# Altium integrated library Infineon_Microcontroller.IntLib: 721 symbols (part 31 of 66)
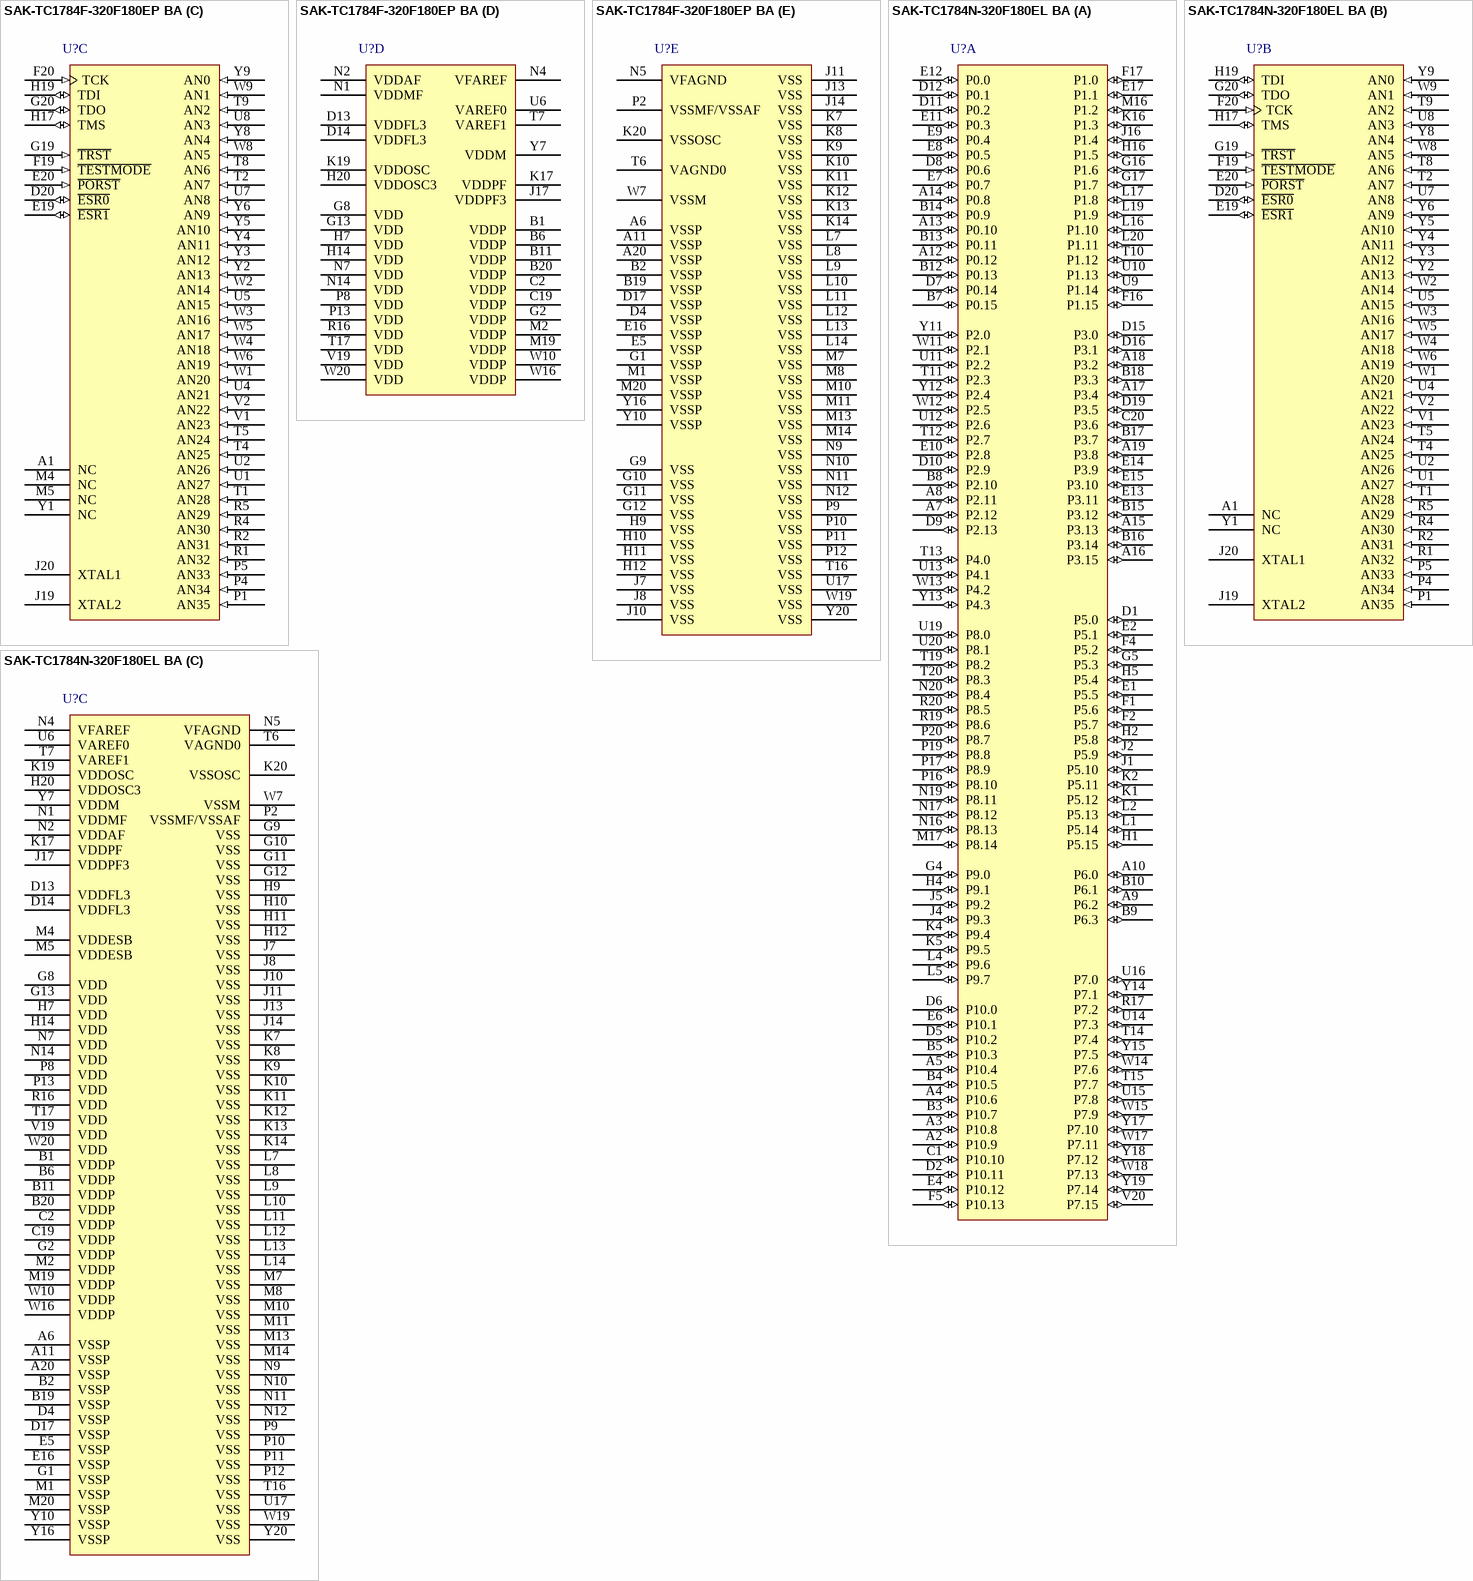
[diagram p148: symbols SAK-TC1784F-320F180EP BA to SAK-TC1784N-320F180EL BA]

## SAK-TC1784N-320F180EL BA
designator U?
180 MHz AUDO MCU with 2.5 MB Program Memory, 176 KByte SRAM, 3.3 V, -40 to 125 degC, PG-LFBGA-292, Reel, Green; Manufacturer: Infineon; PartNumber: SAK-TC1784N-320F180EL BA; A / D input lines (incl. FADC): 36; CAN Nodes: 3; Digital I/O Lines: 91; DMA Channels: 16; DSP functionality (e.g MDU/MAC): TRUE; FlexRay TM: FALSE; I/O Operation Voltages: 3.3 V; Instruction set architecture: TriCore v1.3.1; Instruction width [bits]: 32/16; LIN BSL loader (for fast Flash programming): FALSE; Max Clock Frequency: 180 MHz; Number of ADC Modules: 2; Program Memory: 2.5 MB; Serial I/O Interfaces: 7; Timed I/O Pins (PWM-Ch,CAPCOM): 122; Timer / Counter: 128; Type of Memory: Flash; Type of Serial I/O Interfaces: ASC(2), SSC(3), MSC(1), MLI(1); DatasheetVersion: Rev. 1.0; PackageVersion: V 1.0, 01/2012; PackageReference: PG-LFBGA-292-1; PackageDescription: 292-Pin Plastic (Green) Low Profile Fine Pitch Ball Grid Array Package, Body 17 x 17 mm, Pitch 0.8 mm; E2PROM Emulation (Data-Flash): TRUE; External Bus interface: TRUE; Floating Point Unit: TRUE; Green: TRUE; Halogen-free: TRUE; On-chip clock generation: TRUE; On-chip Voltage Regulator: FALSE; Oscillator Watchdog: TRUE; Packing: Reel; Peripheral Control Processor (PCP): TRUE; Power Modes: 3; SRAM (incl. Cache): 176 KByte; Watchdog Timer: TRUE; Mounting Technology: Surface Mount; Code_JEDEC: J-STD-020C; ComponentLink1Description: Manufacturer URL; ComponentLink1URL: http://www.infineon.com/; ComponentLink2Description: Datasheet; ComponentLink2URL: http://www.infineon.com/dgdl/TC1784_DS_v10.pdf?folderId=db3a304326dfb1300127000d958f65bb&fileId=db3a304336ca04c90136ca92f1cd00a6; ComponentLink3Description: Package Specification; ComponentLink3URL: http://www.infineon.com/dgdl/TC1791_DS_v10.pdf?folderId=db3a304326dfb1300127000d958f65bb&fileId=db3a30433580b3710135afe8eb475643
footprint INF-PG-LFBGA-292-1 (BGA, 292-Balls, Body 17x17mm, Pitch 0.8mm)
part A pins: A2 P10.9 (io), A3 P10.8 (io), A4 P10.6 (io), A5 P10.4 (io), A7 P2.12 (io), A8 P2.11 (io), A9 P6.2 (io), A10 P6.0 (io), A12 P0.12 (io), A13 P0.10 (io), A14 P0.8 (io), A15 P3.13 (io), A16 P3.15 (io), A17 P3.4 (io), A18 P3.2 (io), A19 P3.8 (io), B3 P10.7 (io), B4 P10.5 (io), B5 P10.3 (io), B7 P0.15 (io), B8 P2.10 (io), B9 P6.3 (io), B10 P6.1 (io), B12 P0.13 (io), B13 P0.11 (io), B14 P0.9 (io), B15 P3.12 (io), B16 P3.14 (io), B17 P3.7 (io), B18 P3.3 (io), C1 P10.10 (io), C20 P3.6 (io), D1 P5.0 (io), D2 P10.11 (io), D5 P10.2 (io), D6 P10.0 (io), D7 P0.14 (io), D8 P0.6 (io), D9 P2.13 (io), D10 P2.9 (io), D11 P0.2 (io), D12 P0.1 (io), D15 P3.0 (io), D16 P3.1 (io), D19 P3.5 (io), E1 P5.5 (io), E2 P5.1 (io), E4 P10.12 (io), E6 P10.1 (io), E7 P0.7 (io), E8 P0.5 (io), E9 P0.4 (io), E10 P2.8 (io), E11 P0.3 (io), E12 P0.0 (io), E13 P3.11 (io), E14 P3.9 (io), E15 P3.10 (io), E17 P1.1 (io), F1 P5.6 (io), F2 P5.7 (io), F4 P5.2 (io), F5 P10.13 (io), F16 P1.15 (io), F17 P1.0 (io), G4 P9.0 (io), G5 P5.3 (io), G16 P1.6 (io), G17 P1.7 (io), H1 P5.15 (io), H2 P5.8 (io), H4 P9.1 (io), H5 P5.4 (io), H16 P1.5 (io), J1 P5.10 (io), J2 P5.9 (io), J4 P9.3 (io), J5 P9.2 (io), J16 P1.4 (io), K1 P5.12 (io), K2 P5.11 (io), K4 P9.4 (io), K5 P9.5 (io), K16 P1.3 (io), L1 P5.14 (io), L2 P5.13 (io), L4 P9.6 (io), L5 P9.7 (io), L16 P1.10 (io), L17 P1.8 (io), L19 P1.9 (io), L20 P1.11 (io), M16 P1.2 (io), M17 P8.14 (io), N16 P8.13 (io), N17 P8.12 (io), N19 P8.11 (io), N20 P8.4 (io), P16 P8.10 (io), P17 P8.9 (io), P19 P8.8 (io), P20 P8.7 (io), R17 P7.2 (io), R19 P8.6 (io), R20 P8.5 (io), T10 P1.12 (io), T11 P2.3 (io), T12 P2.7 (io), T13 P4.0 (io), T14 P7.4 (io), T15 P7.7 (io), T19 P8.2 (io), T20 P8.3 (io), U9 P1.14 (io), U10 P1.13 (io), U11 P2.2 (io), U12 P2.6 (io), U13 P4.1 (io), U14 P7.3 (io), U15 P7.8 (io), U16 P7.0 (io), U19 P8.0 (io), U20 P8.1 (io), V20 P7.15 (io), W11 P2.1 (io), W12 P2.5 (io), W13 P4.2 (io), W14 P7.6 (io), W15 P7.9 (io), W17 P7.11 (io), W18 P7.13 (io), Y11 P2.0 (io), Y12 P2.4 (io), Y13 P4.3 (io), Y14 P7.1 (io), Y15 P7.5 (io), Y17 P7.10 (io), Y18 P7.12 (io), Y19 P7.14 (io)
part B pins: A1 NC "Not connected.", D20 ~{ESR0} (io) "External System Request Reset Input 0", E19 ~{ESR1} (io) "External System Request Reset Input 1", E20 ~{PORST} (in) "Power On Reset Input", F19 ~{TESTMODE} (in) "Test Mode Select Input", F20 TCK (in), G19 ~{TRST} (in) "JTAG Reset Input", G20 TDO (io), H17 TMS (io), H19 TDI (io), J19 XTAL2 "Oscillator/PLL/Clock Generator Output", J20 XTAL1 "Oscillator/PLL/Clock Generator Input", P1 AN35 (in) "Analog Input 35", P4 AN34 (in) "Analog Input 34", P5 AN33 (in) "Analog Input 33", R1 AN32 (in) "Analog Input 32", R2 AN31 (in) "Analog Input 31", R4 AN30 (in) "Analog Input 30", R5 AN29 (in) "Analog Input 29", T1 AN28 (in) "Analog Input 28", T2 AN7 (in) "Analog Input 7", T4 AN25 (in) "Analog Input 25", T5 AN24 (in) "Analog Input 24", T8 AN6 (in) "Analog Input 6", T9 AN2 (in) "Analog Input 2", U1 AN27 (in) "Analog Input 27", U2 AN26 (in) "Analog Input 26", U4 AN21 (in) "Analog Input 21", U5 AN15 (in) "Analog Input 15", U7 AN8 (in) "Analog Input 8", U8 AN3 (in) "Analog Input 3", V1 AN23 (in) "Analog Input 23", V2 AN22 (in) "Analog Input 22", W1 AN20 (in) "Analog Input 20", W2 AN14 (in) "Analog Input 14", W3 AN16 (in) "Analog Input 16", W4 AN18 (in) "Analog Input 18", W5 AN17 (in) "Analog Input 17", W6 AN19 (in) "Analog Input 19", W8 AN5 (in) "Analog Input 5", W9 AN1 (in) "Analog Input 1", Y1 NC "Not connected.", Y2 AN13 (in) "Analog Input 13", Y3 AN12 (in) "Analog Input 12", Y4 AN11 (in) "Analog Input 11", Y5 AN10 (in) "Analog Input 10", Y6 AN9 (in) "Analog Input 9", Y8 AN4 (in) "Analog Input 4", Y9 AN0 (in) "Analog Input 0"
part C pins: A6 VSSP (power) "Digital Ground", A11 VSSP (power) "Digital Ground", A20 VSSP (power) "Digital Ground", B1 VDDP (power) "Port Power Supply (3.3V)", B2 VSSP (power) "Digital Ground", B6 VDDP (power) "Port Power Supply (3.3V)", B11 VDDP (power) "Port Power Supply (3.3V)", B19 VSSP (power) "Digital Ground", B20 VDDP (power) "Port Power Supply (3.3V)", C2 VDDP (power) "Port Power Supply (3.3V)", C19 VDDP (power) "Port Power Supply (3.3V)", D4 VSSP (power) "Digital Ground", D13 VDDFL3 (power) "Power Supply for Flash (3.3V)", D14 VDDFL3 (power) "Power Supply for Flash (3.3V)", D17 VSSP (power) "Digital Ground", E5 VSSP (power) "Digital Ground", E16 VSSP (power) "Digital Ground", G1 VSSP (power) "Digital Ground", G2 VDDP (power) "Port Power Supply (3.3V)", G8 VDD (power) "Digital Core Power Supply (1.3V)", G9 VSS (power) "Digital Ground", G10 VSS (power) "Digital Ground", G11 VSS (power) "Digital Ground", G12 VSS (power) "Digital Ground", G13 VDD (power) "Digital Core Power Supply (1.3V)", H7 VDD (power) "Digital Core Power Supply (1.3V)", H9 VSS (power) "Digital Ground", H10 VSS (power) "Digital Ground", H11 VSS (power) "Digital Ground", H12 VSS (power) "Digital Ground", H14 VDD (power) "Digital Core Power Supply (1.3V)", H20 VDDOSC3 (power) "Main Oscillator Power Supply (3.3V)", J7 VSS (power) "Digital Ground", J8 VSS (power) "Digital Ground", J10 VSS (power) "Digital Ground", J11 VSS (power) "Digital Ground", J13 VSS (power) "Digital Ground", J14 VSS (power) "Digital Ground", J17 VDDPF3 (power) "Flexray Oscillator Power Supply (3.3V)", K7 VSS (power) "Digital Ground", K8 VSS (power) "Digital Ground", K9 VSS (power) "Digital Ground", K10 VSS (power) "Digital Ground", K11 VSS (power) "Digital Ground", K12 VSS (power) "Digital Ground", K13 VSS (power) "Digital Ground", K14 VSS (power) "Digital Ground", K17 VDDPF (power) "Flexray Oscillator and PLL Power Supply (1.3V)", K19 VDDOSC (power) "Main Oscillator and PLL Power Supply (1.3V)", K20 VSSOSC (power) "Main Oscillator and PLL Ground", L7 VSS (power) "Digital Ground", L8 VSS (power) "Digital Ground", L9 VSS (power) "Digital Ground", L10 VSS (power) "Digital Ground", L11 VSS (power) "Digital Ground", L12 VSS (power) "Digital Ground", L13 VSS (power) "Digital Ground", L14 VSS (power) "Digital Ground", M1 VSSP (power) "Digital Ground", M2 VDDP (power) "Port Power Supply (3.3V)", M4 VDDESB (power) "Emulation Stand-by SRAM Power Supply (1.3V) (Emulation device only)", M5 VDDESB (power) "Emulation Stand-by SRAM Power Supply (1.3V) (Emulation device only)", M7 VSS (power) "Digital Ground", M8 VSS (power) "Digital Ground", M10 VSS (power) "Digital Ground", M11 VSS (power) "Digital Ground", M13 VSS (power) "Digital Ground", M14 VSS (power) "Digital Ground", M19 VDDP (power) "Port Power Supply (3.3V)", M20 VSSP (power) "Digital Ground", N1 VDDMF (power) "FADC Analog Part Power Supply (3.3V)", N2 VDDAF (power) "FADC Analog Part Logic Power Supply (1.3V)", N4 VFAREF (power) "FADC Reference Voltage", N5 VFAGND (power) "FADC Reference Ground", N7 VDD (power) "Digital Core Power Supply (1.3V)", N9 VSS (power) "Digital Ground", N10 VSS (power) "Digital Ground", N11 VSS (power) "Digital Ground", N12 VSS (power) "Digital Ground", N14 VDD (power) "Digital Core Power Supply (1.3V)", P2 VSSMF/VSSAF (power) "FADC Analog Part Ground", P8 VDD (power) "Digital Core Power Supply (1.3V)", P9 VSS (power) "Digital Ground", P10 VSS (power) "Digital Ground", P11 VSS (power) "Digital Ground", P12 VSS (power) "Digital Ground", P13 VDD (power) "Digital Core Power Supply (1.3V)", R16 VDD (power) "Digital Core Power Supply (1.3V)", T6 VAGND0 (power) "ADC Reference Ground", T7 VAREF1 (power) "ADC1 Reference Voltage", T16 VSS (power) "Digital Ground", T17 VDD (power) "Digital Core Power Supply (1.3V)", U6 VAREF0 (power) "ADC0 Reference Voltage", U17 VSS (power) "Digital Ground", V19 VDD (power) "Digital Core Power Supply (1.3V)", W7 VSSM (power) "ADC Analog Part Ground", W10 VDDP (power) "Port Power Supply (3.3V)", W16 VDDP (power) "Port Power Supply (3.3V)", W19 VSS (power) "Digital Ground", W20 VDD (power) "Digital Core Power Supply (1.3V)", Y7 VDDM (power) "ADC Analog Part Power Supply (3.3V - 5V)", Y10 VSSP (power) "Digital Ground", Y16 VSSP (power) "Digital Ground", Y20 VSS (power) "Digital Ground"

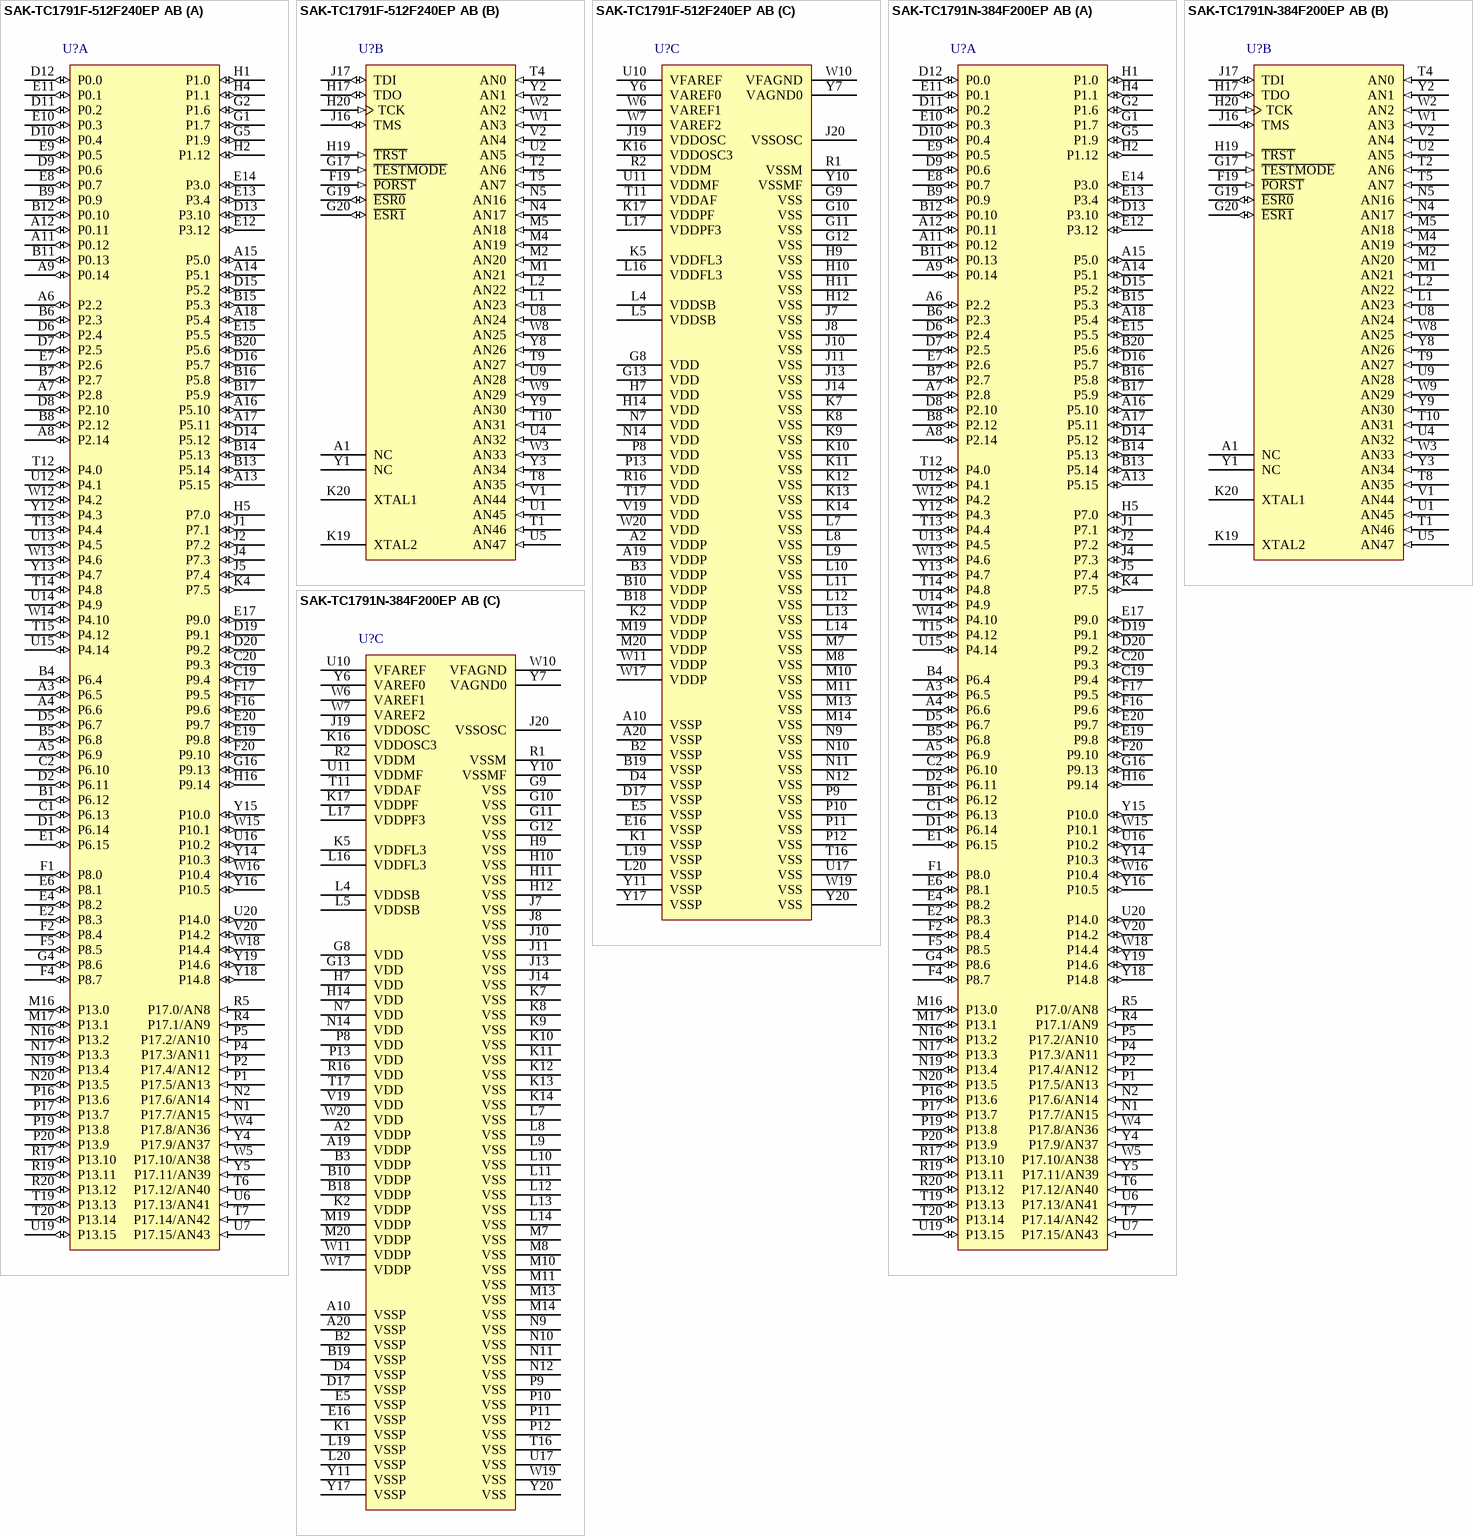
[diagram p55: symbols SAK-TC1791F-512F240EP AB to SAK-TC1791N-384F200EP AB]

## SAK-TC1791F-512F240EP AB
designator U?
240 MHz AUDO MCU with 4 MB Program Memory, 288 KByte SRAM, 3.3 V, -40 to 125 degC, PG-LFBGA-292, Reel, Green; Manufacturer: Infineon; PartNumber: SAK-TC1791F-512F240EP AB; A / D input lines (incl. FADC): 48; CAN Nodes: 4; Digital I/O Lines: 128; DMA Channels: 24; DSP functionality (e.g MDU/MAC): TRUE; External Bus interface: FALSE; I/O Operation Voltages: 3.3 V; Instruction set architecture: TriCore v1.6; Instruction width [bits]: 32/16; LIN BSL loader (for fast Flash programming): FALSE; Max Clock Frequency: 240 MHz; Number of ADC Modules: 3; Program Memory: 4 MB; Serial I/O Interfaces: 9; Timed I/O Pins (PWM-Ch,CAPCOM): 97; Timer / Counter: 246; Type of Memory: Flash; Type of Serial I/O Interfaces: ASC(2), SSC(3), MSC(2), MLI(2); DatasheetVersion: Rev. 1.0; PackageVersion: V 1.0, 01/2012; PackageReference: PG-LFBGA-292-1; PackageDescription: 292-Pin Plastic (Green) Low Profile Fine Pitch Ball Grid Array Package, Body 17 x 17 mm, Pitch 0.8 mm; E2PROM Emulation (Data-Flash): TRUE; FlexRay TM: TRUE; Floating Point Unit: TRUE; Green: TRUE; Halogen-free: TRUE; On-chip clock generation: TRUE; On-chip Voltage Regulator: FALSE; Oscillator Watchdog: TRUE; Packing: Reel; Peripheral Control Processor (PCP): TRUE; Power Modes: 3; SRAM (incl. Cache): 288 KByte; Watchdog Timer: TRUE; Mounting Technology: Surface Mount; Code_JEDEC: J-STD-020C; ComponentLink1Description: Manufacturer URL; ComponentLink1URL: http://www.infineon.com/; ComponentLink2Description: Datasheet; ComponentLink2URL: http://www.infineon.com/dgdl/TC1791_DS_v10.pdf?folderId=db3a304326dfb1300127000d958f65bb&fileId=db3a30433580b3710135afe8eb475643; ComponentLink3Description: Package Specification; ComponentLink3URL: http://www.infineon.com/dgdl/TC1791_DS_v10.pdf?folderId=db3a304326dfb1300127000d958f65bb&fileId=db3a30433580b3710135afe8eb475643
footprint INF-PG-LFBGA-292-1 (BGA, 292-Balls, Body 17x17mm, Pitch 0.8mm)
part A pins: A3 P6.5 (io), A4 P6.6 (io), A5 P6.9 (io), A6 P2.2 (io), A7 P2.8 (io), A8 P2.14 (io), A9 P0.14 (io), A11 P0.12 (io), A12 P0.11 (io), A13 P5.15 (io), A14 P5.1 (io), A15 P5.0 (io), A16 P5.10 (io), A17 P5.11 (io), A18 P5.4 (io), B1 P6.12 (io), B4 P6.4 (io), B5 P6.8 (io), B6 P2.3 (io), B7 P2.7 (io), B8 P2.12 (io), B9 P0.9 (io), B11 P0.13 (io), B12 P0.10 (io), B13 P5.14 (io), B14 P5.13 (io), B15 P5.3 (io), B16 P5.8 (io), B17 P5.9 (io), B20 P5.6 (io), C1 P6.13 (io), C2 P6.10 (io), C19 P9.4 (io), C20 P9.3 (io), D1 P6.14 (io), D2 P6.11 (io), D5 P6.7 (io), D6 P2.4 (io), D7 P2.5 (io), D8 P2.10 (io), D9 P0.6 (io), D10 P0.4 (io), D11 P0.2 (io), D12 P0.0 (io), D13 P3.10 (io), D14 P5.12 (io), D15 P5.2 (io), D16 P5.7 (io), D19 P9.1 (io), D20 P9.2 (io), E1 P6.15 (io), E2 P8.3 (io), E4 P8.2 (io), E6 P8.1 (io), E7 P2.6 (io), E8 P0.7 (io), E9 P0.5 (io), E10 P0.3 (io), E11 P0.1 (io), E12 P3.12 (io), E13 P3.4 (io), E14 P3.0 (io), E15 P5.5 (io), E17 P9.0 (io), E19 P9.8 (io), E20 P9.7 (io), F1 P8.0 (io), F2 P8.4 (io), F4 P8.7 (io), F5 P8.5 (io), F16 P9.6 (io), F17 P9.5 (io), F20 P9.10 (io), G1 P1.7 (io), G2 P1.6 (io), G4 P8.6 (io), G5 P1.9 (io), G16 P9.13 (io), H1 P1.0 (io), H2 P1.12 (io), H4 P1.1 (io), H5 P7.0 (io), H16 P9.14 (io), J1 P7.1 (io), J2 P7.2 (io), J4 P7.3 (io), J5 P7.4 (io), K4 P7.5 (io), M16 P13.0 (io), M17 P13.1 (io), N1 P17.7/AN15 (in), N2 P17.6/AN14 (in), N16 P13.2 (io), N17 P13.3 (io), N19 P13.4 (io), N20 P13.5 (io), P1 P17.5/AN13 (in), P2 P17.4/AN12 (in), P4 P17.3/AN11 (in), P5 P17.2/AN10 (in), P16 P13.6 (io), P17 P13.7 (io), P19 P13.8 (io), P20 P13.9 (io), R4 P17.1/AN9 (in), R5 P17.0/AN8 (in), R17 P13.10 (io), R19 P13.11 (io), R20 P13.12 (io), T6 P17.12/AN40 (in), T7 P17.14/AN42 (in), T12 P4.0 (io), T13 P4.4 (io), T14 P4.8 (io), T15 P4.12 (io), T19 P13.13 (io), T20 P13.14 (io), U6 P17.13/AN41 (in), U7 P17.15/AN43 (in), U12 P4.1 (io), U13 P4.5 (io), U14 P4.9 (io), U15 P4.14 (io), U16 P10.2 (io), U19 P13.15 (io), U20 P14.0 (io), V20 P14.2 (io), W4 P17.8/AN36 (in), W5 P17.10/AN38 (in), W12 P4.2 (io), W13 P4.6 (io), W14 P4.10 (io), W15 P10.1 (io), W16 P10.4 (io), W18 P14.4 (io), Y4 P17.9/AN37 (in), Y5 P17.11/AN39 (in), Y12 P4.3 (io), Y13 P4.7 (io), Y14 P10.3 (io), Y15 P10.0 (io), Y16 P10.5 (io), Y18 P14.8 (io), Y19 P14.6 (io)
part B pins: A1 NC "Not connected.", F19 ~{PORST} (in) "Power-on Reset Input", G17 ~{TESTMODE} (in) "Test Mode Select Input", G19 ~{ESR0} (io) "External System Request Reset Input 0", G20 ~{ESR1} (io) "External System Request Reset Input 1", H17 TDO (io), H19 ~{TRST} (in) "JTAG Module Reset/Enable Input", H20 TCK (in), J16 TMS (io), J17 TDI (io), K19 XTAL2 "Main Oscillator/PLL/Clock Generator Output", K20 XTAL1 "Main Oscillator/PLL/Clock Generator Input", L1 AN23 (in) "Analog Input 23: ADC1.CH7", L2 AN22 (in) "Analog Input 22: ADC1.CH6", M1 AN21 (in) "Analog Input 21: ADC1.CH5", M2 AN20 (in) "Analog Input 20: ADC1.CH4", M4 AN19 (in) "Analog Input 19: ADC1.CH3", M5 AN18 (in) "Analog Input 18: ADC1.CH2", N4 AN17 (in) "Analog Input 17: ADC1.CH1", N5 AN16 (in) "Analog Input 16: ADC1.CH0", T1 AN46 (in) "Analog Input 46: ADC2.CH14", T2 AN6 (in) "Analog Input 6: ADC0.CH6", T4 AN0 (in) "Analog Input 0: ADC0.CH0", T5 AN7 (in) "Analog Input 7: ADC0.CH7", T8 AN35 (in) "Analog Input 35: ADC2.CH3", T9 AN27 (in) "Analog Input 27: ADC1.CH11, FADC_FADIN1N", T10 AN31 (in) "Analog Input 31: ADC1.CH15, FADC_FADIN3N", U1 AN45 (in) "Analog Input 45: ADC2.CH13", U2 AN5 (in) "Analog Input 5: ADC0.CH5", U4 AN32 (in) "Analog Input 32: ADC2.CH0", U5 AN47 (in) "Analog Input 47: ADC2.CH15", U8 AN24 (in) "Analog Input 24: ADC1.CH8, FADC_FADIN0P", U9 AN28 (in) "Analog Input 28: ADC1.CH12, FADC_FADIN2P", V1 AN44 (in) "Analog Input 44: ADC2.CH12", V2 AN4 (in) "Analog Input 4: ADC0.CH4", W1 AN3 (in) "Analog Input 3: ADC0.CH3", W2 AN2 (in) "Analog Input 2: ADC0.CH2", W3 AN33 (in) "Analog Input 33: ADC2.CH1", W8 AN25 (in) "Analog Input 25: ADC1.CH9, FADC_FADIN0N", W9 AN29 (in) "Analog Input 29: ADC1.CH13, FADC_FADIN2N", Y1 NC "Not connected.", Y2 AN1 (in) "Analog Input 1: ADC0.CH1", Y3 AN34 (in) "Analog Input 34: ADC2.CH2", Y8 AN26 (in) "Analog Input 26: ADC1.CH10, FADC_FADIN1P", Y9 AN30 (in) "Analog Input 30: ADC1.CH14, FADC_FADIN3P"
part C pins: A2 VDDP (power) "Port Power Supply (3.3V)", A10 VSSP (power) "Digital Ground (outer balls)", A19 VDDP (power) "Port Power Supply (3.3V)", A20 VSSP (power) "Digital Ground (outer balls)", B2 VSSP (power) "Digital Ground (outer balls)", B3 VDDP (power) "Port Power Supply (3.3V)", B10 VDDP (power) "Port Power Supply (3.3V)", B18 VDDP (power) "Port Power Supply (3.3V)", B19 VSSP (power) "Digital Ground (outer balls)", D4 VSSP (power) "Digital Ground (outer balls)", D17 VSSP (power) "Digital Ground (outer balls)", E5 VSSP (power) "Digital Ground (outer balls)", E16 VSSP (power) "Digital Ground (outer balls)", G8 VDD (power) "Digital Core Power Supply (1.3V)", G9 VSS (power) "Digital Ground (center balls)", G10 VSS (power) "Digital Ground (center balls)", G11 VSS (power) "Digital Ground (center balls)", G12 VSS (power) "Digital Ground (center balls)", G13 VDD (power) "Digital Core Power Supply (1.3V)", H7 VDD (power) "Digital Core Power Supply (1.3V)", H9 VSS (power) "Digital Ground (center balls)", H10 VSS (power) "Digital Ground (center balls)", H11 VSS (power) "Digital Ground (center balls)", H12 VSS (power) "Digital Ground (center balls)", H14 VDD (power) "Digital Core Power Supply (1.3V)", J7 VSS (power) "Digital Ground (center balls)", J8 VSS (power) "Digital Ground (center balls)", J10 VSS (power) "Digital Ground (center balls)", J11 VSS (power) "Digital Ground (center balls)", J13 VSS (power) "Digital Ground (center balls)", J14 VSS (power) "Digital Ground (center balls)", J19 VDDOSC (power) "Main Oscillator Power Supply (1.3V)", J20 VSSOSC (power) "Oscillator Ground (Main & E-Ray)", K1 VSSP (power) "Digital Ground (outer balls)", K2 VDDP (power) "Port Power Supply (3.3V)", K5 VDDFL3 (power) "Flash Power Supply (3.3V)", K7 VSS (power) "Digital Ground (center balls)", K8 VSS (power) "Digital Ground (center balls)", K9 VSS (power) "Digital Ground (center balls)", K10 VSS (power) "Digital Ground (center balls)", K11 VSS (power) "Digital Ground (center balls)", K12 VSS (power) "Digital Ground (center balls)", K13 VSS (power) "Digital Ground (center balls)", K14 VSS (power) "Digital Ground (center balls)", K16 VDDOSC3 (power) "Main Oscillator Power Supply (3.3V)", K17 VDDPF (power) "E-Ray PLL Power Supply (1.3V)", L4 VDDSB (power) "Emulation Stand-by SRAM Power Supply (1.3V) (Emulation device only)", L5 VDDSB (power) "Emulation Stand-by SRAM Power Supply (1.3V) (Emulation device only)", L7 VSS (power) "Digital Ground (center balls)", L8 VSS (power) "Digital Ground (center balls)", L9 VSS (power) "Digital Ground (center balls)", L10 VSS (power) "Digital Ground (center balls)", L11 VSS (power) "Digital Ground (center balls)", L12 VSS (power) "Digital Ground (center balls)", L13 VSS (power) "Digital Ground (center balls)", L14 VSS (power) "Digital Ground (center balls)", L16 VDDFL3 (power) "Flash Power Supply (3.3V)", L17 VDDPF3 (power) "E-Ray PLL Power Supply (3.3V)", L19 VSSP (power) "Digital Ground (outer balls)", L20 VSSP (power) "Digital Ground (outer balls)", M7 VSS (power) "Digital Ground (center balls)", M8 VSS (power) "Digital Ground (center balls)", M10 VSS (power) "Digital Ground (center balls)", M11 VSS (power) "Digital Ground (center balls)", M13 VSS (power) "Digital Ground (center balls)", M14 VSS (power) "Digital Ground (center balls)", M19 VDDP (power) "Port Power Supply (3.3V)", M20 VDDP (power) "Port Power Supply (3.3V)", N7 VDD (power) "Digital Core Power Supply (1.3V)", N9 VSS (power) "Digital Ground (center balls)", N10 VSS (power) "Digital Ground (center balls)", N11 VSS (power) "Digital Ground (center balls)", N12 VSS (power) "Digital Ground (center balls)", N14 VDD (power) "Digital Core Power Supply (1.3V)", P8 VDD (power) "Digital Core Power Supply (1.3V)", P9 VSS (power) "Digital Ground (center balls)", P10 VSS (power) "Digital Ground (center balls)", P11 VSS (power) "Digital Ground (center balls)", P12 VSS (power) "Digital Ground (center balls)", P13 VDD (power) "Digital Core Power Supply (1.3V)", R1 VSSM (power) "ADC Analog Part Ground", R2 VDDM (power) "ADC Analog Part Power Supply (3.3V - 5V)", R16 VDD (power) "Digital Core Power Supply (1.3V)", T11 VDDAF (power) "FADC Analog Part Logic Power Supply (1.3V)", T16 VSS (power) "Digital Ground (outer balls)", T17 VDD (power) "Digital Core Power Supply (1.3V)", U10 VFAREF (power) "FADC Reference Voltage", U11 VDDMF (power) "FADC Analog Part Power Supply (3.3V)", U17 VSS (power) "Digital Ground (outer balls)", V19 VDD (power) "Digital Core Power Supply (1.3V)", W6 VAREF1 (power) "ADC1 Reference Voltage", W7 VAREF2 (power) "ADC2 Reference Voltage", W10 VFAGND (power) "FADC Reference Ground", W11 VDDP (power) "Port Power Supply (3.3V)", W17 VDDP (power) "Port Power Supply (3.3V)", W19 VSS (power) "Digital Ground (outer balls)", W20 VDD (power) "Digital Core Power Supply (1.3V)", Y6 VAREF0 (power) "ADC0 Reference Voltage", Y7 VAGND0 (power), Y10 VSSMF (power), Y11 VSSP (power) "Digital Ground (outer balls)", Y17 VSSP (power) "Digital Ground (outer balls)", Y20 VSS (power) "Digital Ground (outer balls)"

## SAK-TC1791N-384F200EP AB
designator U?
200 MHz AUDO MCU with 3 MB Program Memory, 288 KByte SRAM, 3.3 V, -40 to 125 degC, PG-LFBGA-292, Reel, Green; Manufacturer: Infineon; PartNumber: SAK-TC1791N-384F200EP AB; A / D input lines (incl. FADC): 48; CAN Nodes: 4; Digital I/O Lines: 128; DMA Channels: 24; DSP functionality (e.g MDU/MAC): TRUE; External Bus interface: FALSE; I/O Operation Voltages: 3.3 V; Instruction set architecture: TriCore v1.6; Instruction width [bits]: 32/16; LIN BSL loader (for fast Flash programming): FALSE; Max Clock Frequency: 200 MHz; Number of ADC Modules: 3; Program Memory: 3 MB; Serial I/O Interfaces: 9; Timed I/O Pins (PWM-Ch,CAPCOM): 97; Timer / Counter: 246; Type of Memory: Flash; Type of Serial I/O Interfaces: ASC(2), SSC(3), MSC(2), MLI(2); DatasheetVersion: Rev. 1.0; PackageVersion: V 1.0, 01/2012; PackageReference: PG-LFBGA-292-1; PackageDescription: 292-Pin Plastic (Green) Low Profile Fine Pitch Ball Grid Array Package, Body 17 x 17 mm, Pitch 0.8 mm; E2PROM Emulation (Data-Flash): TRUE; FlexRay TM: FALSE; Floating Point Unit: TRUE; Green: TRUE; Halogen-free: TRUE; On-chip clock generation: TRUE; On-chip Voltage Regulator: FALSE; Oscillator Watchdog: TRUE; Packing: Reel; Peripheral Control Processor (PCP): TRUE; Power Modes: 3; SRAM (incl. Cache): 288 KByte; Watchdog Timer: TRUE; Mounting Technology: Surface Mount; Code_JEDEC: J-STD-020C; ComponentLink1Description: Manufacturer URL; ComponentLink1URL: http://www.infineon.com/; ComponentLink2Description: Datasheet; ComponentLink2URL: http://www.infineon.com/dgdl/TC1791_DS_v10.pdf?folderId=db3a304326dfb1300127000d958f65bb&fileId=db3a30433580b3710135afe8eb475643; ComponentLink3Description: Package Specification; ComponentLink3URL: http://www.infineon.com/dgdl/TC1791_DS_v10.pdf?folderId=db3a304326dfb1300127000d958f65bb&fileId=db3a30433580b3710135afe8eb475643
footprint INF-PG-LFBGA-292-1 (BGA, 292-Balls, Body 17x17mm, Pitch 0.8mm)
part A pins: A3 P6.5 (io), A4 P6.6 (io), A5 P6.9 (io), A6 P2.2 (io), A7 P2.8 (io), A8 P2.14 (io), A9 P0.14 (io), A11 P0.12 (io), A12 P0.11 (io), A13 P5.15 (io), A14 P5.1 (io), A15 P5.0 (io), A16 P5.10 (io), A17 P5.11 (io), A18 P5.4 (io), B1 P6.12 (io), B4 P6.4 (io), B5 P6.8 (io), B6 P2.3 (io), B7 P2.7 (io), B8 P2.12 (io), B9 P0.9 (io), B11 P0.13 (io), B12 P0.10 (io), B13 P5.14 (io), B14 P5.13 (io), B15 P5.3 (io), B16 P5.8 (io), B17 P5.9 (io), B20 P5.6 (io), C1 P6.13 (io), C2 P6.10 (io), C19 P9.4 (io), C20 P9.3 (io), D1 P6.14 (io), D2 P6.11 (io), D5 P6.7 (io), D6 P2.4 (io), D7 P2.5 (io), D8 P2.10 (io), D9 P0.6 (io), D10 P0.4 (io), D11 P0.2 (io), D12 P0.0 (io), D13 P3.10 (io), D14 P5.12 (io), D15 P5.2 (io), D16 P5.7 (io), D19 P9.1 (io), D20 P9.2 (io), E1 P6.15 (io), E2 P8.3 (io), E4 P8.2 (io), E6 P8.1 (io), E7 P2.6 (io), E8 P0.7 (io), E9 P0.5 (io), E10 P0.3 (io), E11 P0.1 (io), E12 P3.12 (io), E13 P3.4 (io), E14 P3.0 (io), E15 P5.5 (io), E17 P9.0 (io), E19 P9.8 (io), E20 P9.7 (io), F1 P8.0 (io), F2 P8.4 (io), F4 P8.7 (io), F5 P8.5 (io), F16 P9.6 (io), F17 P9.5 (io), F20 P9.10 (io), G1 P1.7 (io), G2 P1.6 (io), G4 P8.6 (io), G5 P1.9 (io), G16 P9.13 (io), H1 P1.0 (io), H2 P1.12 (io), H4 P1.1 (io), H5 P7.0 (io), H16 P9.14 (io), J1 P7.1 (io), J2 P7.2 (io), J4 P7.3 (io), J5 P7.4 (io), K4 P7.5 (io), M16 P13.0 (io), M17 P13.1 (io), N1 P17.7/AN15 (in), N2 P17.6/AN14 (in), N16 P13.2 (io), N17 P13.3 (io), N19 P13.4 (io), N20 P13.5 (io), P1 P17.5/AN13 (in), P2 P17.4/AN12 (in), P4 P17.3/AN11 (in), P5 P17.2/AN10 (in), P16 P13.6 (io), P17 P13.7 (io), P19 P13.8 (io), P20 P13.9 (io), R4 P17.1/AN9 (in), R5 P17.0/AN8 (in), R17 P13.10 (io), R19 P13.11 (io), R20 P13.12 (io), T6 P17.12/AN40 (in), T7 P17.14/AN42 (in), T12 P4.0 (io), T13 P4.4 (io), T14 P4.8 (io), T15 P4.12 (io), T19 P13.13 (io), T20 P13.14 (io), U6 P17.13/AN41 (in), U7 P17.15/AN43 (in), U12 P4.1 (io), U13 P4.5 (io), U14 P4.9 (io), U15 P4.14 (io), U16 P10.2 (io), U19 P13.15 (io), U20 P14.0 (io), V20 P14.2 (io), W4 P17.8/AN36 (in), W5 P17.10/AN38 (in), W12 P4.2 (io), W13 P4.6 (io), W14 P4.10 (io), W15 P10.1 (io), W16 P10.4 (io), W18 P14.4 (io), Y4 P17.9/AN37 (in), Y5 P17.11/AN39 (in), Y12 P4.3 (io), Y13 P4.7 (io), Y14 P10.3 (io), Y15 P10.0 (io), Y16 P10.5 (io), Y18 P14.8 (io), Y19 P14.6 (io)
part B pins: A1 NC "Not connected.", F19 ~{PORST} (in) "Power-on Reset Input", G17 ~{TESTMODE} (in) "Test Mode Select Input", G19 ~{ESR0} (io) "External System Request Reset Input 0", G20 ~{ESR1} (io) "External System Request Reset Input 1", H17 TDO (io), H19 ~{TRST} (in) "JTAG Module Reset/Enable Input", H20 TCK (in), J16 TMS (io), J17 TDI (io), K19 XTAL2 "Main Oscillator/PLL/Clock Generator Output", K20 XTAL1 "Main Oscillator/PLL/Clock Generator Input", L1 AN23 (in) "Analog Input 23: ADC1.CH7", L2 AN22 (in) "Analog Input 22: ADC1.CH6", M1 AN21 (in) "Analog Input 21: ADC1.CH5", M2 AN20 (in) "Analog Input 20: ADC1.CH4", M4 AN19 (in) "Analog Input 19: ADC1.CH3", M5 AN18 (in) "Analog Input 18: ADC1.CH2", N4 AN17 (in) "Analog Input 17: ADC1.CH1", N5 AN16 (in) "Analog Input 16: ADC1.CH0", T1 AN46 (in) "Analog Input 46: ADC2.CH14", T2 AN6 (in) "Analog Input 6: ADC0.CH6", T4 AN0 (in) "Analog Input 0: ADC0.CH0", T5 AN7 (in) "Analog Input 7: ADC0.CH7", T8 AN35 (in) "Analog Input 35: ADC2.CH3", T9 AN27 (in) "Analog Input 27: ADC1.CH11, FADC_FADIN1N", T10 AN31 (in) "Analog Input 31: ADC1.CH15, FADC_FADIN3N", U1 AN45 (in) "Analog Input 45: ADC2.CH13", U2 AN5 (in) "Analog Input 5: ADC0.CH5", U4 AN32 (in) "Analog Input 32: ADC2.CH0", U5 AN47 (in) "Analog Input 47: ADC2.CH15", U8 AN24 (in) "Analog Input 24: ADC1.CH8, FADC_FADIN0P", U9 AN28 (in) "Analog Input 28: ADC1.CH12, FADC_FADIN2P", V1 AN44 (in) "Analog Input 44: ADC2.CH12", V2 AN4 (in) "Analog Input 4: ADC0.CH4", W1 AN3 (in) "Analog Input 3: ADC0.CH3", W2 AN2 (in) "Analog Input 2: ADC0.CH2", W3 AN33 (in) "Analog Input 33: ADC2.CH1", W8 AN25 (in) "Analog Input 25: ADC1.CH9, FADC_FADIN0N", W9 AN29 (in) "Analog Input 29: ADC1.CH13, FADC_FADIN2N", Y1 NC "Not connected.", Y2 AN1 (in) "Analog Input 1: ADC0.CH1", Y3 AN34 (in) "Analog Input 34: ADC2.CH2", Y8 AN26 (in) "Analog Input 26: ADC1.CH10, FADC_FADIN1P", Y9 AN30 (in) "Analog Input 30: ADC1.CH14, FADC_FADIN3P"
part C pins: A2 VDDP (power) "Port Power Supply (3.3V)", A10 VSSP (power) "Digital Ground (outer balls)", A19 VDDP (power) "Port Power Supply (3.3V)", A20 VSSP (power) "Digital Ground (outer balls)", B2 VSSP (power) "Digital Ground (outer balls)", B3 VDDP (power) "Port Power Supply (3.3V)", B10 VDDP (power) "Port Power Supply (3.3V)", B18 VDDP (power) "Port Power Supply (3.3V)", B19 VSSP (power) "Digital Ground (outer balls)", D4 VSSP (power) "Digital Ground (outer balls)", D17 VSSP (power) "Digital Ground (outer balls)", E5 VSSP (power) "Digital Ground (outer balls)", E16 VSSP (power) "Digital Ground (outer balls)", G8 VDD (power) "Digital Core Power Supply (1.3V)", G9 VSS (power) "Digital Ground (center balls)", G10 VSS (power) "Digital Ground (center balls)", G11 VSS (power) "Digital Ground (center balls)", G12 VSS (power) "Digital Ground (center balls)", G13 VDD (power) "Digital Core Power Supply (1.3V)", H7 VDD (power) "Digital Core Power Supply (1.3V)", H9 VSS (power) "Digital Ground (center balls)", H10 VSS (power) "Digital Ground (center balls)", H11 VSS (power) "Digital Ground (center balls)", H12 VSS (power) "Digital Ground (center balls)", H14 VDD (power) "Digital Core Power Supply (1.3V)", J7 VSS (power) "Digital Ground (center balls)", J8 VSS (power) "Digital Ground (center balls)", J10 VSS (power) "Digital Ground (center balls)", J11 VSS (power) "Digital Ground (center balls)", J13 VSS (power) "Digital Ground (center balls)", J14 VSS (power) "Digital Ground (center balls)", J19 VDDOSC (power) "Main Oscillator Power Supply (1.3V)", J20 VSSOSC (power) "Oscillator Ground (Main & E-Ray)", K1 VSSP (power) "Digital Ground (outer balls)", K2 VDDP (power) "Port Power Supply (3.3V)", K5 VDDFL3 (power) "Flash Power Supply (3.3V)", K7 VSS (power) "Digital Ground (center balls)", K8 VSS (power) "Digital Ground (center balls)", K9 VSS (power) "Digital Ground (center balls)", K10 VSS (power) "Digital Ground (center balls)", K11 VSS (power) "Digital Ground (center balls)", K12 VSS (power) "Digital Ground (center balls)", K13 VSS (power) "Digital Ground (center balls)", K14 VSS (power) "Digital Ground (center balls)", K16 VDDOSC3 (power) "Main Oscillator Power Supply (3.3V)", K17 VDDPF (power) "E-Ray PLL Power Supply (1.3V)", L4 VDDSB (power) "Emulation Stand-by SRAM Power Supply (1.3V) (Emulation device only)", L5 VDDSB (power) "Emulation Stand-by SRAM Power Supply (1.3V) (Emulation device only)", L7 VSS (power) "Digital Ground (center balls)", L8 VSS (power) "Digital Ground (center balls)", L9 VSS (power) "Digital Ground (center balls)", L10 VSS (power) "Digital Ground (center balls)", L11 VSS (power) "Digital Ground (center balls)", L12 VSS (power) "Digital Ground (center balls)", L13 VSS (power) "Digital Ground (center balls)", L14 VSS (power) "Digital Ground (center balls)", L16 VDDFL3 (power) "Flash Power Supply (3.3V)", L17 VDDPF3 (power) "E-Ray PLL Power Supply (3.3V)", L19 VSSP (power) "Digital Ground (outer balls)", L20 VSSP (power) "Digital Ground (outer balls)", M7 VSS (power) "Digital Ground (center balls)", M8 VSS (power) "Digital Ground (center balls)", M10 VSS (power) "Digital Ground (center balls)", M11 VSS (power) "Digital Ground (center balls)", M13 VSS (power) "Digital Ground (center balls)", M14 VSS (power) "Digital Ground (center balls)", M19 VDDP (power) "Port Power Supply (3.3V)", M20 VDDP (power) "Port Power Supply (3.3V)", N7 VDD (power) "Digital Core Power Supply (1.3V)", N9 VSS (power) "Digital Ground (center balls)", N10 VSS (power) "Digital Ground (center balls)", N11 VSS (power) "Digital Ground (center balls)", N12 VSS (power) "Digital Ground (center balls)", N14 VDD (power) "Digital Core Power Supply (1.3V)", P8 VDD (power) "Digital Core Power Supply (1.3V)", P9 VSS (power) "Digital Ground (center balls)", P10 VSS (power) "Digital Ground (center balls)", P11 VSS (power) "Digital Ground (center balls)", P12 VSS (power) "Digital Ground (center balls)", P13 VDD (power) "Digital Core Power Supply (1.3V)", R1 VSSM (power) "ADC Analog Part Ground", R2 VDDM (power) "ADC Analog Part Power Supply (3.3V - 5V)", R16 VDD (power) "Digital Core Power Supply (1.3V)", T11 VDDAF (power) "FADC Analog Part Logic Power Supply (1.3V)", T16 VSS (power) "Digital Ground (outer balls)", T17 VDD (power) "Digital Core Power Supply (1.3V)", U10 VFAREF (power) "FADC Reference Voltage", U11 VDDMF (power) "FADC Analog Part Power Supply (3.3V)", U17 VSS (power) "Digital Ground (outer balls)", V19 VDD (power) "Digital Core Power Supply (1.3V)", W6 VAREF1 (power) "ADC1 Reference Voltage", W7 VAREF2 (power) "ADC2 Reference Voltage", W10 VFAGND (power) "FADC Reference Ground", W11 VDDP (power) "Port Power Supply (3.3V)", W17 VDDP (power) "Port Power Supply (3.3V)", W19 VSS (power) "Digital Ground (outer balls)", W20 VDD (power) "Digital Core Power Supply (1.3V)", Y6 VAREF0 (power) "ADC0 Reference Voltage", Y7 VAGND0 (power), Y10 VSSMF (power), Y11 VSSP (power) "Digital Ground (outer balls)", Y17 VSSP (power) "Digital Ground (outer balls)", Y20 VSS (power) "Digital Ground (outer balls)"

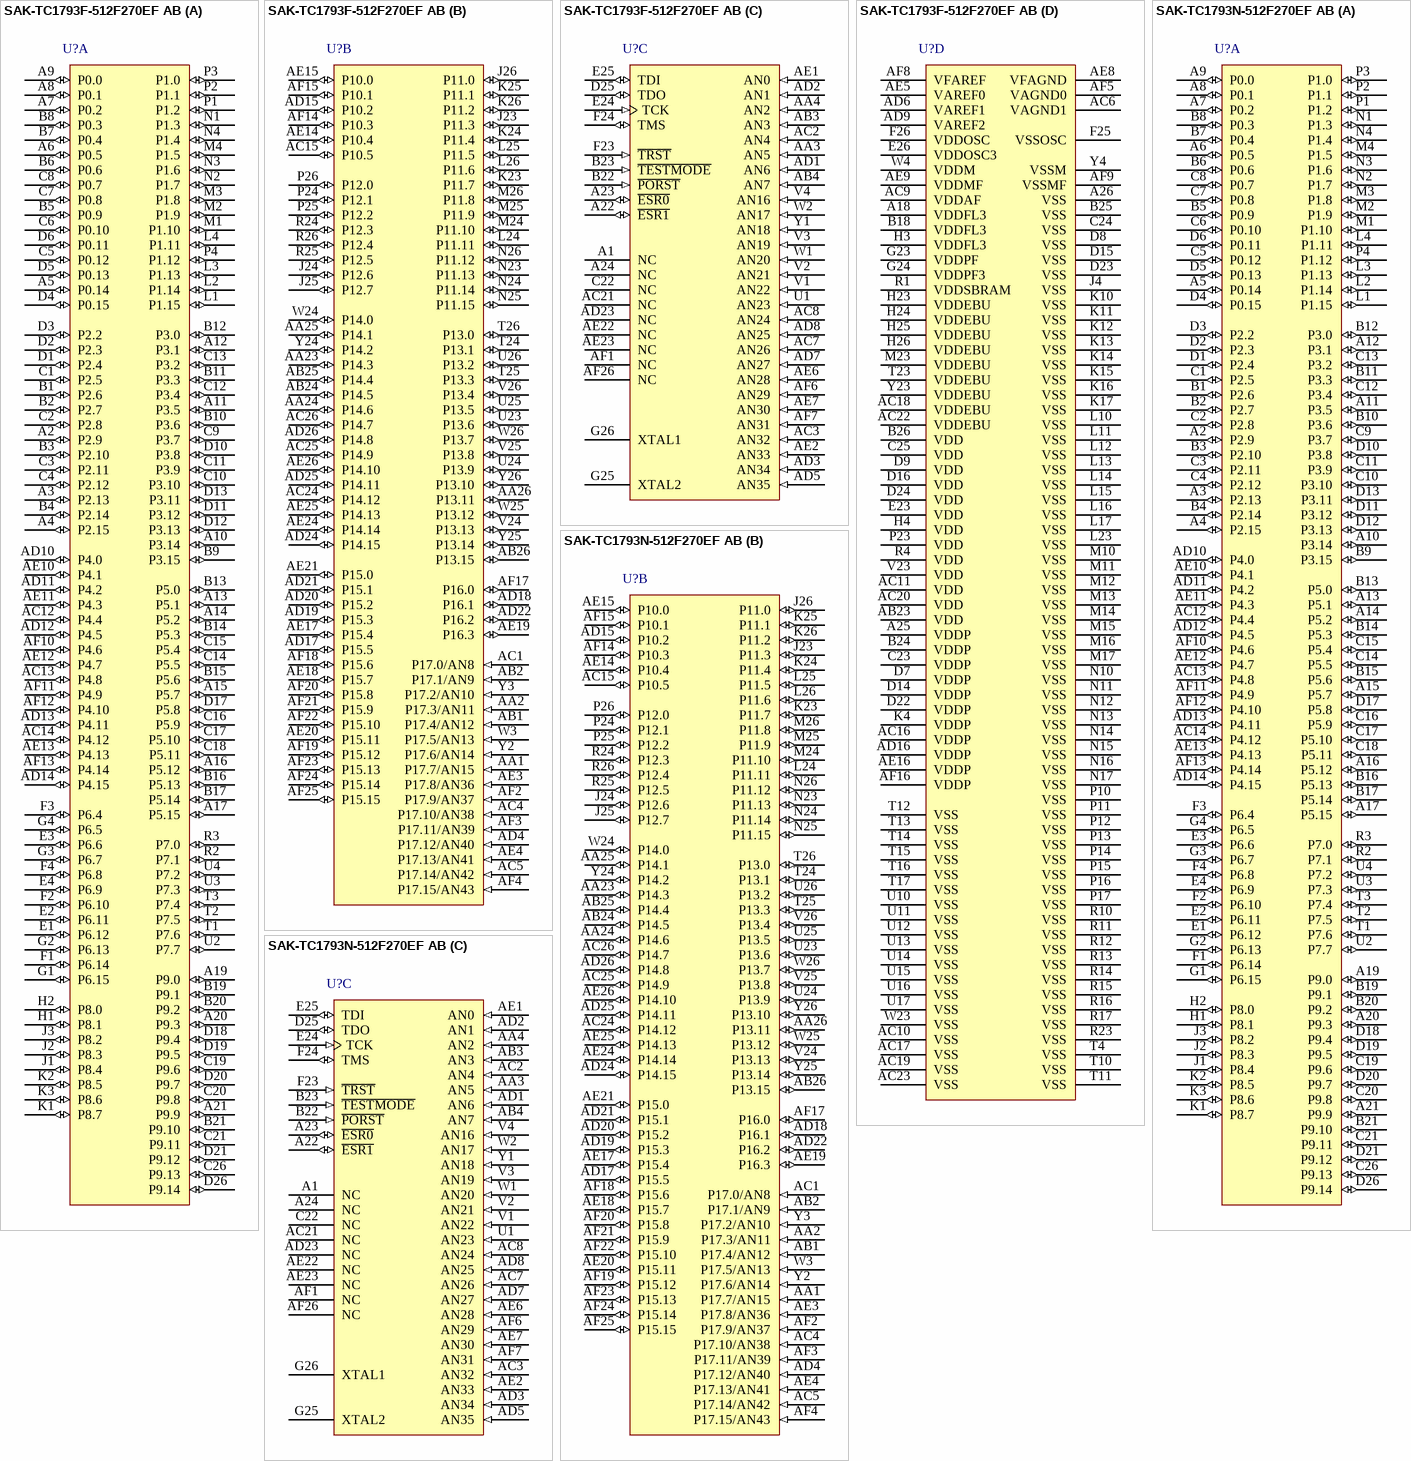
[diagram p56: symbols SAK-TC1793F-512F270EF AB to SAK-TC1793N-512F270EF AB]

## SAK-TC1793F-512F270EF AB
designator U?
270 MHz AUDO MCU with 4 MB Program Memory, 288 KByte SRAM, 3.3 V, -40 to 125 degC, PG-BGA-416, Reel, Green; Manufacturer: Infineon; PartNumber: SAK-TC1793F-512F270EF AB; A / D input lines (incl. FADC): 44; CAN Nodes: 4; Digital I/O Lines: 221; DMA Channels: 24; DSP functionality (e.g MDU/MAC): TRUE; I/O Operation Voltages: 3.3 V; Instruction set architecture: TriCore v1.6; Instruction width [bits]: 32/16; LIN BSL loader (for fast Flash programming): FALSE; Max Clock Frequency: 270 MHz; Number of ADC Modules: 3; On-chip Voltage Regulator: FALSE; Program Memory: 4 MB; Serial I/O Interfaces: 9; Timed I/O Pins (PWM-Ch,CAPCOM): 112; Timer / Counter: 246; Type of Memory: Flash; Type of Serial I/O Interfaces: ASC(2), SSC(3), MSC(2), MLI(2); DatasheetVersion: Rev. 1.1.1; PackageVersion: V1.1.1, 12/2012; PackageReference: PG-BGA-416-22; PackageDescription: 416-Pin Plastic (Green) Ball Grid Array Package, Body 27 x 27 mm, Pitch 1 mm; E2PROM Emulation (Data-Flash): TRUE; External Bus interface: TRUE; FlexRay TM: TRUE; Floating Point Unit: TRUE; Green: TRUE; Halogen-free: TRUE; On-chip clock generation: TRUE; Oscillator Watchdog: TRUE; Packing: Reel; Peripheral Control Processor (PCP): TRUE; Power Modes: 3; SRAM (incl. Cache): 288 KByte; Watchdog Timer: TRUE; Mounting Technology: Surface Mount; Code_JEDEC: J-STD-020C; ComponentLink1Description: Manufacturer URL; ComponentLink1URL: http://www.infineon.com/; ComponentLink2Description: Datasheet; ComponentLink2URL: http://www.infineon.com/dgdl/TC1793_DS_v111_.pdf?folderId=db3a304326dfb1300127000d958f65bb&fileId=db3a304333227b5e013368d702f5176b; ComponentLink3Description: Package Specification; ComponentLink3URL: http://www.infineon.com/dgdl/TC1793_DS_v111_.pdf?folderId=db3a304326dfb1300127000d958f65bb&fileId=db3a304333227b5e013368d702f5176b
footprint INF-PG-BGA-416-22 (BGA, 416-Balls, Body 27x27mm, Pitch 1mm)
part A pins: A2 P2.9 (io), A3 P2.13 (io), A4 P2.15 (io), A5 P0.14 (io), A6 P0.5 (io), A7 P0.2 (io), A8 P0.1 (io), A9 P0.0 (io), A10 P3.14 (io), A11 P3.5 (io), A12 P3.1 (io), A13 P5.1 (io), A14 P5.2 (io), A15 P5.7 (io), A16 P5.12 (io), A17 P5.15 (io), A19 P9.0 (io), A20 P9.3 (io), A21 P9.9 (io), AC12 P4.4 (io), AC13 P4.8 (io), AC14 P4.12 (io), AD10 P4.0 (io), AD11 P4.2 (io), AD12 P4.5 (io), AD13 P4.11 (io), AD14 P4.15 (io), AE10 P4.1 (io), AE11 P4.3 (io), AE12 P4.7 (io), AE13 P4.13 (io), AF10 P4.6 (io), AF11 P4.9 (io), AF12 P4.10 (io), AF13 P4.14 (io), B1 P2.6 (io), B2 P2.7 (io), B3 P2.10 (io), B4 P2.14 (io), B5 P0.9 (io), B6 P0.6 (io), B7 P0.4 (io), B8 P0.3 (io), B9 P3.15 (io), B10 P3.6 (io), B11 P3.3 (io), B12 P3.0 (io), B13 P5.0 (io), B14 P5.3 (io), B15 P5.6 (io), B16 P5.13 (io), B17 P5.14 (io), B19 P9.1 (io), B20 P9.2 (io), B21 P9.10 (io), C1 P2.5 (io), C2 P2.8 (io), C3 P2.11 (io), C4 P2.12 (io), C5 P0.12 (io), C6 P0.10 (io), C7 P0.8 (io), C8 P0.7 (io), C9 P3.7 (io), C10 P3.10 (io), C11 P3.9 (io), C12 P3.4 (io), C13 P3.2 (io), C14 P5.5 (io), C15 P5.4 (io), C16 P5.9 (io), C17 P5.10 (io), C18 P5.11 (io), C19 P9.6 (io), C20 P9.8 (io), C21 P9.11 (io), C26 P9.13 (io), D1 P2.4 (io), D2 P2.3 (io), D3 P2.2 (io), D4 P0.15 (io), D5 P0.13 (io), D6 P0.11 (io), D10 P3.8 (io), D11 P3.12 (io), D12 P3.13 (io), D13 P3.11 (io), D17 P5.8 (io), D18 P9.4 (io), D19 P9.5 (io), D20 P9.7 (io), D21 P9.12 (io), D26 P9.14 (io), E1 P6.12 (io), E2 P6.11 (io), E3 P6.6 (io), E4 P6.9 (io), F1 P6.14 (io), F2 P6.10 (io), F3 P6.4 (io), F4 P6.8 (io), G1 P6.15 (io), G2 P6.13 (io), G3 P6.7 (io), G4 P6.5 (io), H1 P8.1 (io), H2 P8.0 (io), J1 P8.4 (io), J2 P8.3 (io), J3 P8.2 (io), K1 P8.7 (io), K2 P8.5 (io), K3 P8.6 (io), L1 P1.15 (io), L2 P1.14 (io), L3 P1.13 (io), L4 P1.11 (io), M1 P1.10 (io), M2 P1.9 (io), M3 P1.8 (io), M4 P1.5 (io), N1 P1.3 (io), N2 P1.7 (io), N3 P1.6 (io), N4 P1.4 (io), P1 P1.2 (io), P2 P1.1 (io), P3 P1.0 (io), P4 P1.12 (io), R2 P7.1 (io), R3 P7.0 (io), T1 P7.6 (io), T2 P7.5 (io), T3 P7.4 (io), U2 P7.7 (io), U3 P7.3 (io), U4 P7.2 (io)
part B pins: AA1 P17.7/AN15 (in), AA2 P17.3/AN11 (in), AA23 P14.3 (io), AA24 P14.6 (io), AA25 P14.1 (io), AA26 P13.11 (io), AB1 P17.4/AN12 (in), AB2 P17.1/AN9 (in), AB24 P14.5 (io), AB25 P14.4 (io), AB26 P13.15 (io), AC1 P17.0/AN8 (in), AC4 P17.10/AN38 (in), AC5 P17.14/AN42 (in), AC15 P10.5 (io), AC24 P14.12 (io), AC25 P14.9 (io), AC26 P14.7 (io), AD4 P17.12/AN40 (in), AD15 P10.2 (io), AD17 P15.5 (io), AD18 P16.1 (io), AD19 P15.3 (io), AD20 P15.2 (io), AD21 P15.1 (io), AD22 P16.2 (io), AD24 P14.15 (io), AD25 P14.11 (io), AD26 P14.8 (io), AE3 P17.8/AN36 (in), AE4 P17.13/AN41 (in), AE14 P10.4 (io), AE15 P10.0 (io), AE17 P15.4 (io), AE18 P15.7 (io), AE19 P16.3 (io), AE20 P15.11 (io), AE21 P15.0 (io), AE24 P14.14 (io), AE25 P14.13 (io), AE26 P14.10 (io), AF2 P17.9/AN37 (in), AF3 P17.11/AN39 (in), AF4 P17.15/AN43 (in), AF14 P10.3 (io), AF15 P10.1 (io), AF17 P16.0 (io), AF18 P15.6 (io), AF19 P15.12 (io), AF20 P15.8 (io), AF21 P15.9 (io), AF22 P15.10 (io), AF23 P15.13 (io), AF24 P15.14 (io), AF25 P15.15 (io), J23 P11.3 (io), J24 P12.6 (io), J25 P12.7 (io), J26 P11.0 (io), K23 P11.7 (io), K24 P11.4 (io), K25 P11.1 (io), K26 P11.2 (io), L24 P11.11 (io), L25 P11.5 (io), L26 P11.6 (io), M24 P11.10 (io), M25 P11.9 (io), M26 P11.8 (io), N23 P11.13 (io), N24 P11.14 (io), N25 P11.15 (io), N26 P11.12 (io), P24 P12.1 (io), P25 P12.2 (io), P26 P12.0 (io), R24 P12.3 (io), R25 P12.5 (io), R26 P12.4 (io), T24 P13.1 (io), T25 P13.3 (io), T26 P13.0 (io), U23 P13.6 (io), U24 P13.9 (io), U25 P13.5 (io), U26 P13.2 (io), V24 P13.13 (io), V25 P13.8 (io), V26 P13.4 (io), W3 P17.5/AN13 (in), W24 P14.0 (io), W25 P13.12 (io), W26 P13.7 (io), Y2 P17.6/AN14 (in), Y3 P17.2/AN10 (in), Y24 P14.2 (io), Y25 P13.14 (io), Y26 P13.10 (io)
part C pins: A1 NC "Not connected.", A22 ~{ESR1} (io) "External System Request Reset Input 1", A23 ~{ESR0} (io) "External System Request Reset Input 0", A24 NC "Not connected.", AA3 AN5 (in) "Analog Input 5: ADC0.CH5, ADC2.CH13", AA4 AN2 (in) "Analog Input 2: ADC0.CH2", AB3 AN3 (in) "Analog Input 3: ADC0.CH3", AB4 AN7 (in) "Analog Input 7: ADC0.CH7, ADC2.CH15", AC2 AN4 (in) "Analog Input 4: ADC0.CH4, ADC2.CH12", AC3 AN32 (in) "Analog Input 32: ADC2.CH0", AC7 AN26 (in) "Analog Input 26: ADC1.CH10, FADC_FADIN1P", AC8 AN24 (in) "Analog Input 24: ADC1.CH8, FADC_FADIN0P", AC21 NC "Not connected.", AD1 AN6 (in) "Analog Input 6: ADC0.CH6, ADC2.CH14", AD2 AN1 (in) "Analog Input 1: ADC0.CH1", AD3 AN34 (in) "Analog Input 34: ADC2.CH2", AD5 AN35 (in) "Analog Input 35: ADC2.CH3", AD7 AN27 (in) "Analog Input 27: ADC1.CH11, FADC_FADIN1N", AD8 AN25 (in) "Analog Input 25: ADC1.CH9, FADC_FADIN0N", AD23 NC "Not connected.", AE1 AN0 (in) "Analog Input 0: ADC0.CH0", AE2 AN33 (in) "Analog Input 33: ADC2.CH1", AE6 AN28 (in) "Analog Input 28: ADC1.CH12, FADC_FADIN2P", AE7 AN30 (in) "Analog Input 30: ADC1.CH14, FADC_FADIN3P", AE22 NC "Not connected.", AE23 NC "Not connected.", AF1 NC "Not connected.", AF6 AN29 (in) "Analog Input 29: ADC1.CH13, FADC_FADIN2N", AF7 AN31 (in) "Analog Input 31: ADC1.CH15, FADC_FADIN3N", AF26 NC "Not connected.", B22 ~{PORST} (in) "Power-on Reset Input", B23 ~{TESTMODE} (in) "Test Mode Select Input", C22 NC "Not connected.", D25 TDO (io), E24 TCK (in), E25 TDI (io), F23 ~{TRST} (in) "JTAG Module Reset/Enable Input", F24 TMS (io), G25 XTAL2 "Main Oscillator/PLL/Clock Generator Output", G26 XTAL1 "Main Oscillator/PLL/Clock Generator Input", U1 AN23 (in) "Analog Input 23: ADC1.CH7", V1 AN22 (in) "Analog Input 22: ADC1.CH6", V2 AN21 (in) "Analog Input 21: ADC1.CH5", V3 AN19 (in) "Analog Input 19: ADC1.CH3", V4 AN16 (in) "Analog Input 16: ADC1.CH0", W1 AN20 (in) "Analog Input 20: ADC1.CH4", W2 AN17 (in) "Analog Input 17: ADC1.CH1", Y1 AN18 (in) "Analog Input 18: ADC1.CH2"
part D pins: A18 VDDFL3 (power) "Flash Power Supply (3.3V)", A25 VDDP (power) "Port Power Supply (3.3V)", A26 VSS (power) "Digital Ground (outer balls)", AB23 VDD (power) "Digital Core Power Supply (1.3V)", AC6 VAGND1 (power) "ADC1 Reference Ground", AC9 VDDAF (power) "FADC Analog Part Logic Power Supply (1.3V)", AC10 VSS (power) "Digital Ground (outer balls)", AC11 VDD (power) "Digital Core Power Supply (1.3V)", AC16 VDDP (power) "Port Power Supply (3.3V)", AC17 VSS (power) "Digital Ground (outer balls)", AC18 VDDEBU (power) "EBU Port Power Supply (1.8V - 2.5V - 3.3V)", AC19 VSS (power) "Digital Ground (outer balls)", AC20 VDD (power) "Digital Core Power Supply (1.3V)", AC22 VDDEBU (power) "EBU Port Power Supply (1.8V - 2.5V - 3.3V)", AC23 VSS (power) "Digital Ground (outer balls)", AD6 VAREF1 (power) "ADC1 Reference Voltage", AD9 VAREF2 (power) "ADC2 Reference Voltage", AD16 VDDP (power) "Port Power Supply (3.3V)", AE5 VAREF0 (power) "ADC0 Reference Voltage", AE8 VFAGND (power) "FADC Reference Ground", AE9 VDDMF (power) "FADC Analog Part Power Supply (3.3V)", AE16 VDDP (power) "Port Power Supply (3.3V)", AF5 VAGND0 (power), AF8 VFAREF (power) "FADC Reference Voltage", AF9 VSSMF (power), AF16 VDDP (power) "Port Power Supply (3.3V)", B18 VDDFL3 (power) "Flash Power Supply (3.3V)", B24 VDDP (power) "Port Power Supply (3.3V)", B25 VSS (power) "Digital Ground (outer balls)", B26 VDD (power) "Digital Core Power Supply (1.3V)", C23 VDDP (power) "Port Power Supply (3.3V)", C24 VSS (power) "Digital Ground (outer balls)", C25 VDD (power) "Digital Core Power Supply (1.3V)", D7 VDDP (power) "Port Power Supply (3.3V)", D8 VSS (power) "Digital Ground (outer balls)", D9 VDD (power) "Digital Core Power Supply (1.3V)", D14 VDDP (power) "Port Power Supply (3.3V)", D15 VSS (power) "Digital Ground (outer balls)", D16 VDD (power) "Digital Core Power Supply (1.3V)", D22 VDDP (power) "Port Power Supply (3.3V)", D23 VSS (power) "Digital Ground (outer balls)", D24 VDD (power) "Digital Core Power Supply (1.3V)", E23 VDD (power) "Digital Core Power Supply (1.3V)", E26 VDDOSC3 (power) "Main Oscillator Power Supply (3.3V)", F25 VSSOSC (power), F26 VDDOSC (power) "Main Oscillator Power Supply (1.3V)", G23 VDDPF (power) "E-Ray PLL Power Supply (1.3V)", G24 VDDPF3 (power) "E-Ray PLL Power Supply (3.3V)", H3 VDDFL3 (power) "Flash Power Supply (3.3V)", H4 VDD (power) "Digital Core Power Supply (1.3V)", H23 VDDEBU (power) "EBU Port Power Supply (1.8V - 2.5V - 3.3V)", H24 VDDEBU (power) "EBU Port Power Supply (1.8V - 2.5V - 3.3V)", H25 VDDEBU (power) "EBU Port Power Supply (1.8V - 2.5V - 3.3V)", H26 VDDEBU (power) "EBU Port Power Supply (1.8V - 2.5V - 3.3V)", J4 VSS (power) "Digital Ground (outer balls)", K4 VDDP (power) "Port Power Supply (3.3V)", K10 VSS (power) "Digital Ground (center balls)", K11 VSS (power) "Digital Ground (center balls)", K12 VSS (power) "Digital Ground (center balls)", K13 VSS (power) "Digital Ground (center balls)", K14 VSS (power) "Digital Ground (center balls)", K15 VSS (power) "Digital Ground (center balls)", K16 VSS (power) "Digital Ground (center balls)", K17 VSS (power) "Digital Ground (center balls)", L10 VSS (power) "Digital Ground (center balls)", L11 VSS (power) "Digital Ground (center balls)", L12 VSS (power) "Digital Ground (center balls)", L13 VSS (power) "Digital Ground (center balls)", L14 VSS (power) "Digital Ground (center balls)", L15 VSS (power) "Digital Ground (center balls)", L16 VSS (power) "Digital Ground (center balls)", L17 VSS (power) "Digital Ground (center balls)", L23 VSS (power) "Digital Ground (outer balls)", M10 VSS (power) "Digital Ground (center balls)", M11 VSS (power) "Digital Ground (center balls)", M12 VSS (power) "Digital Ground (center balls)", M13 VSS (power) "Digital Ground (center balls)", M14 VSS (power) "Digital Ground (center balls)", M15 VSS (power) "Digital Ground (center balls)", M16 VSS (power) "Digital Ground (center balls)", M17 VSS (power) "Digital Ground (center balls)", M23 VDDEBU (power) "EBU Port Power Supply (1.8V - 2.5V - 3.3V)", N10 VSS (power) "Digital Ground (center balls)", N11 VSS (power) "Digital Ground (center balls)", N12 VSS (power) "Digital Ground (center balls)", N13 VSS (power) "Digital Ground (center balls)", N14 VSS (power) "Digital Ground (center balls)", N15 VSS (power) "Digital Ground (center balls)", N16 VSS (power) "Digital Ground (center balls)", N17 VSS (power) "Digital Ground (center balls)", P10 VSS (power) "Digital Ground (center balls)", P11 VSS (power) "Digital Ground (center balls)", P12 VSS (power) "Digital Ground (center balls)", P13 VSS (power) "Digital Ground (center balls)", P14 VSS (power) "Digital Ground (center balls)", P15 VSS (power) "Digital Ground (center balls)", P16 VSS (power) "Digital Ground (center balls)", P17 VSS (power) "Digital Ground (center balls)", P23 VDD (power) "Digital Core Power Supply (1.3V)", R1 VDDSBRAM (power) "Emulation Stand-by SRAM Power Supply (1.3V) (Emulation device only)", R4 VDD (power) "Digital Core Power Supply (1.3V)", R10 VSS (power) "Digital Ground (center balls)", R11 VSS (power) "Digital Ground (center balls)", R12 VSS (power) "Digital Ground (center balls)", R13 VSS (power) "Digital Ground (center balls)", R14 VSS (power) "Digital Ground (center balls)", R15 VSS (power) "Digital Ground (center balls)", R16 VSS (power) "Digital Ground (center balls)", R17 VSS (power) "Digital Ground (center balls)", R23 VSS (power) "Digital Ground (outer balls)", T4 VSS (power) "Digital Ground (outer balls)", T10 VSS (power) "Digital Ground (center balls)", T11 VSS (power) "Digital Ground (center balls)", T12 VSS (power) "Digital Ground (center balls)", T13 VSS (power) "Digital Ground (center balls)", T14 VSS (power) "Digital Ground (center balls)", T15 VSS (power) "Digital Ground (center balls)", T16 VSS (power) "Digital Ground (center balls)", T17 VSS (power) "Digital Ground (center balls)", T23 VDDEBU (power) "EBU Port Power Supply (1.8V - 2.5V - 3.3V)", U10 VSS (power) "Digital Ground (center balls)", U11 VSS (power) "Digital Ground (center balls)", U12 VSS (power) "Digital Ground (center balls)", U13 VSS (power) "Digital Ground (center balls)", U14 VSS (power) "Digital Ground (center balls)", U15 VSS (power) "Digital Ground (center balls)", U16 VSS (power) "Digital Ground (center balls)", U17 VSS (power) "Digital Ground (center balls)", V23 VDD (power) "Digital Core Power Supply (1.3V)", W4 VDDM (power) "ADC Analog Part Power Supply (3.3V - 5V)", W23 VSS (power) "Digital Ground (outer balls)", Y4 VSSM (power) "ADC Analog Part Ground", Y23 VDDEBU (power) "EBU Port Power Supply (1.8V - 2.5V - 3.3V)"

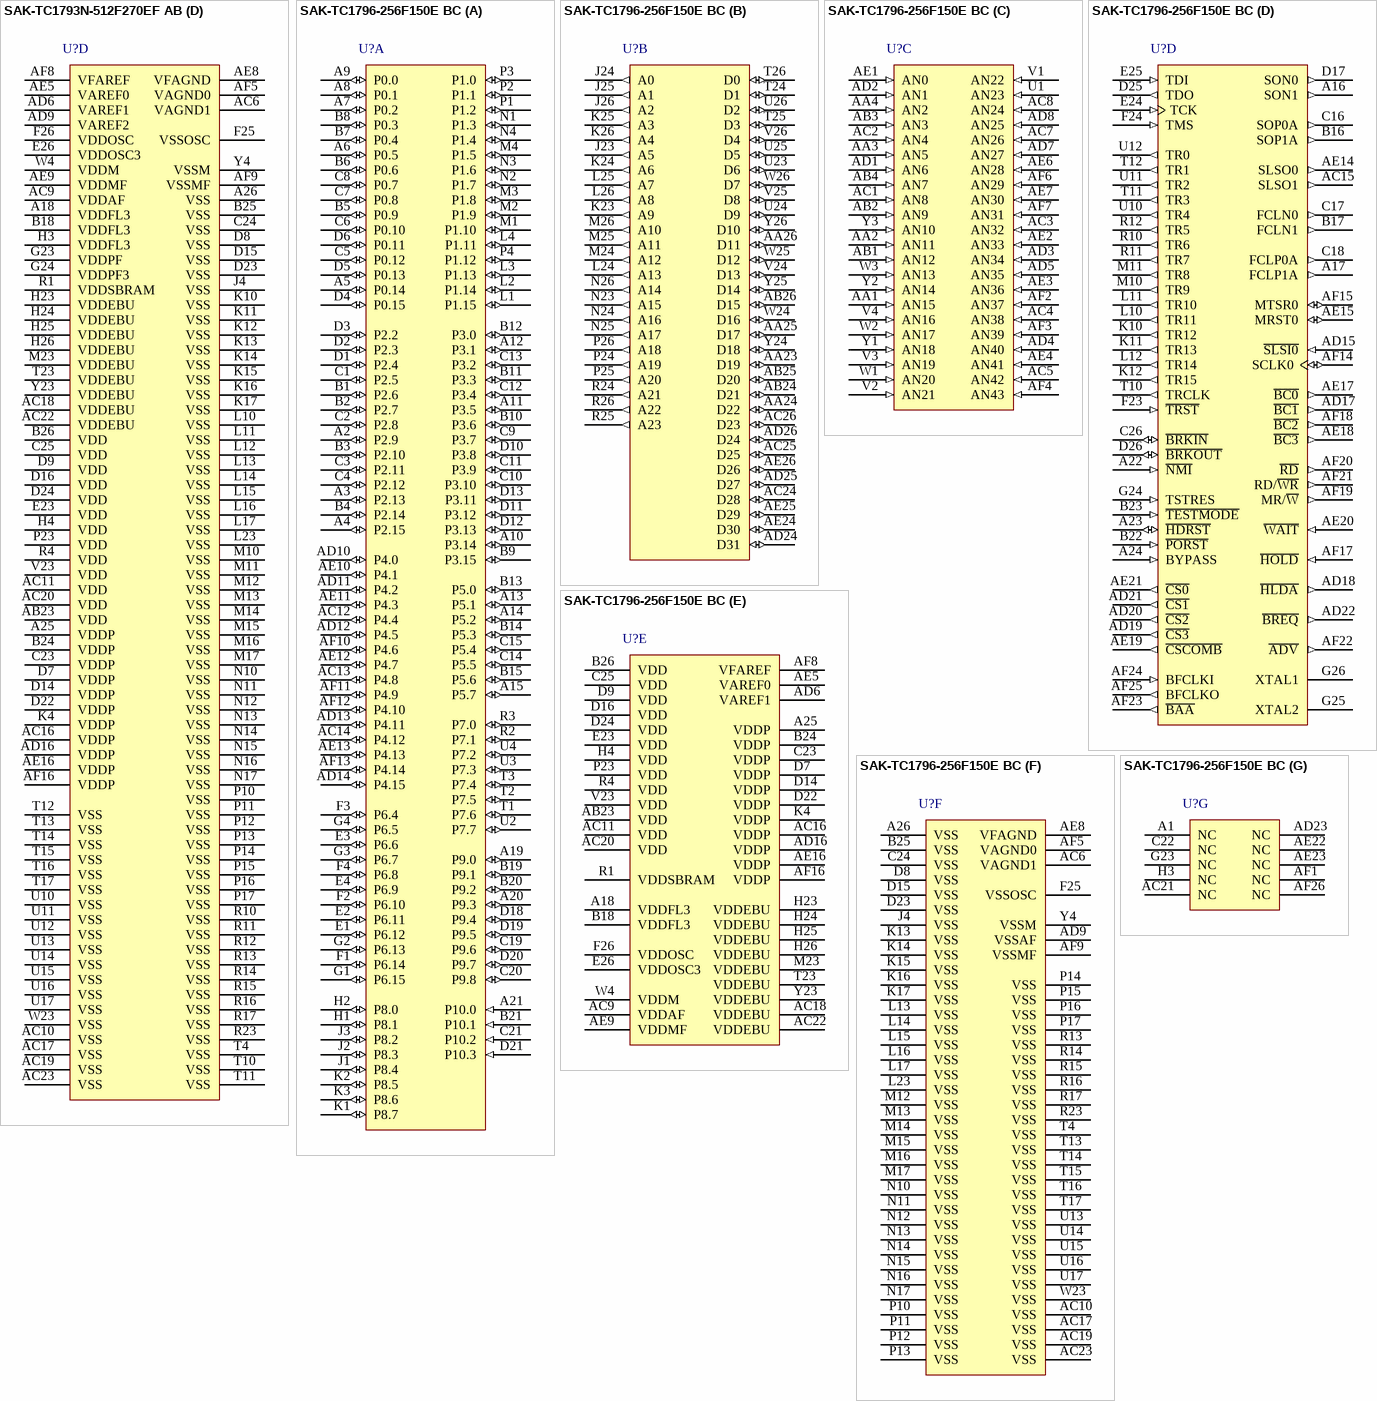
[diagram p57: symbols SAK-TC1793N-512F270EF AB to SAK-TC1796-256F150E BC]